# Altium schematic symbol library PI7C9X2G404ELZXAE.SchLib: 1 symbol
Pins are listed as number, name and electrical type; pins without a type are passive.

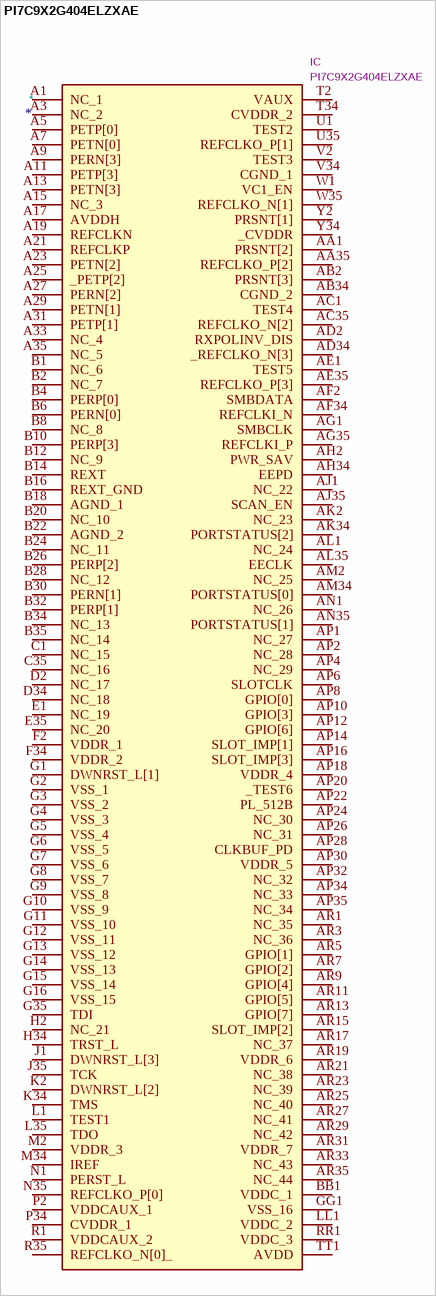
[diagram p0: symbol PI7C9X2G404ELZXAE]

## PI7C9X2G404ELZXAE
designator *  value PI7C9X2G404ELZXAE  Reference: IC
Manufacturer_Name: Diodes Incorporated; ki_description: PCI Interface IC 4Port 4 Lane PCIe2.0 Packet Switch 136AQFN; Footprint: PI7C9X2G404ELZXAE; Datasheet: https://www.diodes.com//assets/Datasheets/PI7C9X2G404EL.pdf; Height: 0.85; Manufacturer_Part_Number: PI7C9X2G404ELZXAE; Mouser Part Number: 729-PI7C9X2G404ELZXA; Mouser Price/Stock: https://www.mouser.co.uk/ProductDetail/Diodes-Incorporated/PI7C9X2G404ELZXAE?qs=GaJ26EWJkZQvPKJjTx940w%3D%3D
pins: A1 NC_1, A3 NC_2, A5 PETP[0], A7 PETN[0], A9 PERN[3], A11 PETP[3], A13 PETN[3], A15 NC_3, A17 AVDDH, A19 REFCLKN, A21 REFCLKP, A23 PETN[2], A25 _PETP[2], A27 PERN[2], A29 PETN[1], A31 PETP[1], A33 NC_4, A35 NC_5, AA1 PRSNT[2], AA35 REFCLKO_P[2], AB2 PRSNT[3], AB34 CGND_2, AC1 TEST4, AC35 REFCLKO_N[2], AD2 RXPOLINV_DIS, AD34 _REFCLKO_N[3], AE1 TEST5, AE35 REFCLKO_P[3], AF2 SMBDATA, AF34 REFCLKI_N, AG1 SMBCLK, AG35 REFCLKI_P, AH2 PWR_SAV, AH34 EEPD, AJ1 NC_22, AJ35 SCAN_EN, AK2 NC_23, AK34 PORTSTATUS[2], AL1 NC_24, AL35 EECLK, AM2 NC_25, AM34 PORTSTATUS[0], AN1 NC_26, AN35 PORTSTATUS[1], AP1 NC_27, AP2 NC_28, AP4 NC_29, AP6 SLOTCLK, AP8 GPIO[0], AP10 GPIO[3], AP12 GPIO[6], AP14 SLOT_IMP[1], AP16 SLOT_IMP[3], AP18 VDDR_4, AP20 _TEST6, AP22 PL_512B, AP24 NC_30, AP26 NC_31, AP28 CLKBUF_PD, AP30 VDDR_5, AP32 NC_32, AP34 NC_33, AP35 NC_34, AR1 NC_35, AR3 NC_36, AR5 GPIO[1], AR7 GPIO[2], AR9 GPIO[4], AR11 GPIO[5], AR13 GPIO[7], AR15 SLOT_IMP[2], AR17 NC_37, AR19 VDDR_6, AR21 NC_38, AR23 NC_39, AR25 NC_40, AR27 NC_41, AR29 NC_42, AR31 VDDR_7, AR33 NC_43, AR35 NC_44, B1 NC_6, B2 NC_7, B4 PERP[0], B6 PERN[0], B8 NC_8, B10 PERP[3], B12 NC_9, B14 REXT, B16 REXT_GND, B18 AGND_1, B20 NC_10, B22 AGND_2, B24 NC_11, B26 PERP[2], B28 NC_12, B30 PERN[1], B32 PERP[1], B34 NC_13, B35 NC_14, BB1 VDDC_1, C1 NC_15, C35 NC_16, D2 NC_17, D34 NC_18, E1 NC_19, E35 NC_20, F2 VDDR_1, F34 VDDR_2, G1 DWNRST_L[1], G2 VSS_1, G3 VSS_2, G4 VSS_3, G5 VSS_4, G6 VSS_5, G7 VSS_6, G8 VSS_7, G9 VSS_8, G10 VSS_9, G11 VSS_10, G12 VSS_11, G13 VSS_12, G14 VSS_13, G15 VSS_14, G16 VSS_15, G35 TDI, GG1 VSS_16, H2 NC_21, H34 TRST_L, J1 DWNRST_L[3], J35 TCK, K2 DWNRST_L[2], K34 TMS, L1 TEST1, L35 TDO, LL1 VDDC_2, M2 VDDR_3, M34 IREF, N1 PERST_L, N35 REFCLKO_P[0], P2 VDDCAUX_1, P34 CVDDR_1, R1 VDDCAUX_2, R35 REFCLKO_N[0]_, RR1 VDDC_3, T2 VAUX, T34 CVDDR_2, TT1 AVDD, U1 TEST2, U35 REFCLKO_P[1], V2 TEST3, V34 CGND_1, W1 VC1_EN, W35 REFCLKO_N[1], Y2 PRSNT[1], Y34 _CVDDR